# EAGLE library part SAGEM-HILO (library X893)
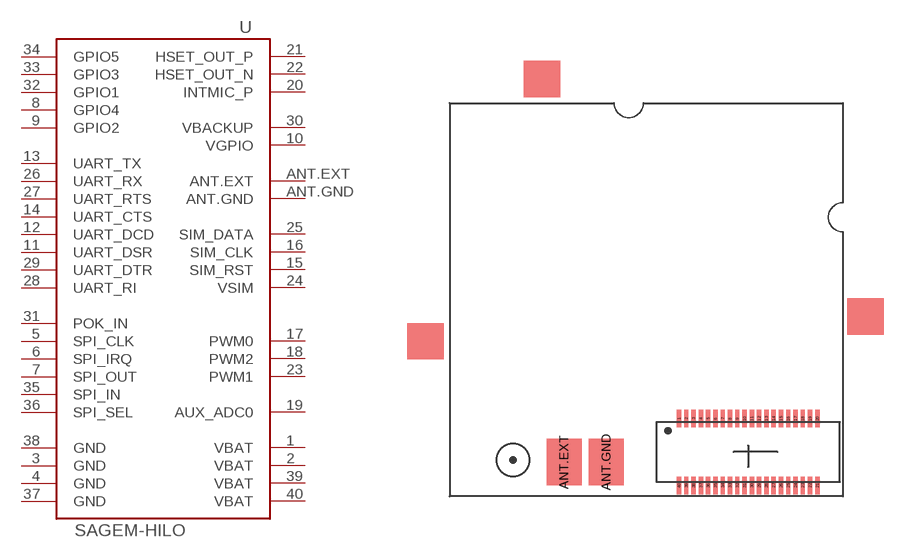
[diagram p37: symbol with the pads of SAGEM-HILO; footprint SAGEM-HILO]

Designator prefix U

## SAGEM-HILO  [SAGEM-HILO]
1  VBAT
2  VBAT
3  GND
4  GND
5  SPI_CLK
6  SPI_IRQ  in
7  SPI_OUT  out
8  GPIO4
9  GPIO2
10  VGPIO
11  UART_DSR  out
12  UART_DCD  out
13  UART_TX  out
14  UART_CTS  out
15  SIM_RST  out
16  SIM_CLK  out
17  PWM0  out
18  PWM2  out
19  AUX_ADC0  in
20  INTMIC_P  in
21  HSET_OUT_P  pas
22  HSET_OUT_N  pas
23  PWM1  out
24  VSIM  pwr
25  SIM_DATA
26  UART_RX  in
27  UART_RTS  in
28  UART_RI  out
29  UART_DTR  in
30  VBACKUP
31  POK_IN  in
32  GPIO1
33  GPIO3
34  GPIO5
35  SPI_IN
36  SPI_SEL  out
37  GND
38  GND
39  VBAT
40  VBAT
ANT.EXT  ANT.EXT  pas
ANT.GND  ANT.GND  pas

## Footprint SAGEM-HILO (pad centres in mm)
smd 0.3 x 1.2: 1 -11.25,5.35; 2 -10.75,5.35; 3 -10.25,5.35; 4 -9.75,5.35; 5 -9.25,5.35; 6 -8.75,5.35; 7 -8.25,5.35; 8 -7.75,5.35; 9 -7.25,5.35; 10 -6.75,5.35; 11 -6.25,5.35; 12 -5.75,5.35; 13 -5.25,5.35; 14 -4.75,5.35; 15 -4.25,5.35; 16 -3.75,5.35; 17 -3.25,5.35; 18 -2.75,5.35; 19 -2.25,5.35; 20 -1.75,5.35; 21 -1.75,0.75; 22 -2.25,0.75; 23 -2.75,0.75; 24 -3.25,0.75; 25 -3.75,0.75; 26 -4.25,0.75; 27 -4.75,0.75; 28 -5.25,0.75; 29 -5.75,0.75; 30 -6.25,0.75; 31 -6.75,0.75; 32 -7.25,0.75; 33 -7.75,0.75; 34 -8.25,0.75; 35 -8.75,0.75; 36 -9.25,0.75; 37 -9.75,0.75; 38 -10.25,0.75; 39 -10.75,0.75; 40 -11.25,0.75
smd 2.4 x 3.2: ANT.EXT -19.13,2.35; ANT.GND -16.23,2.35